# Altium schematic symbol library schematics.SchLib: 22 symbols
Pins are listed as number, name and electrical type; pins without a type are passive.

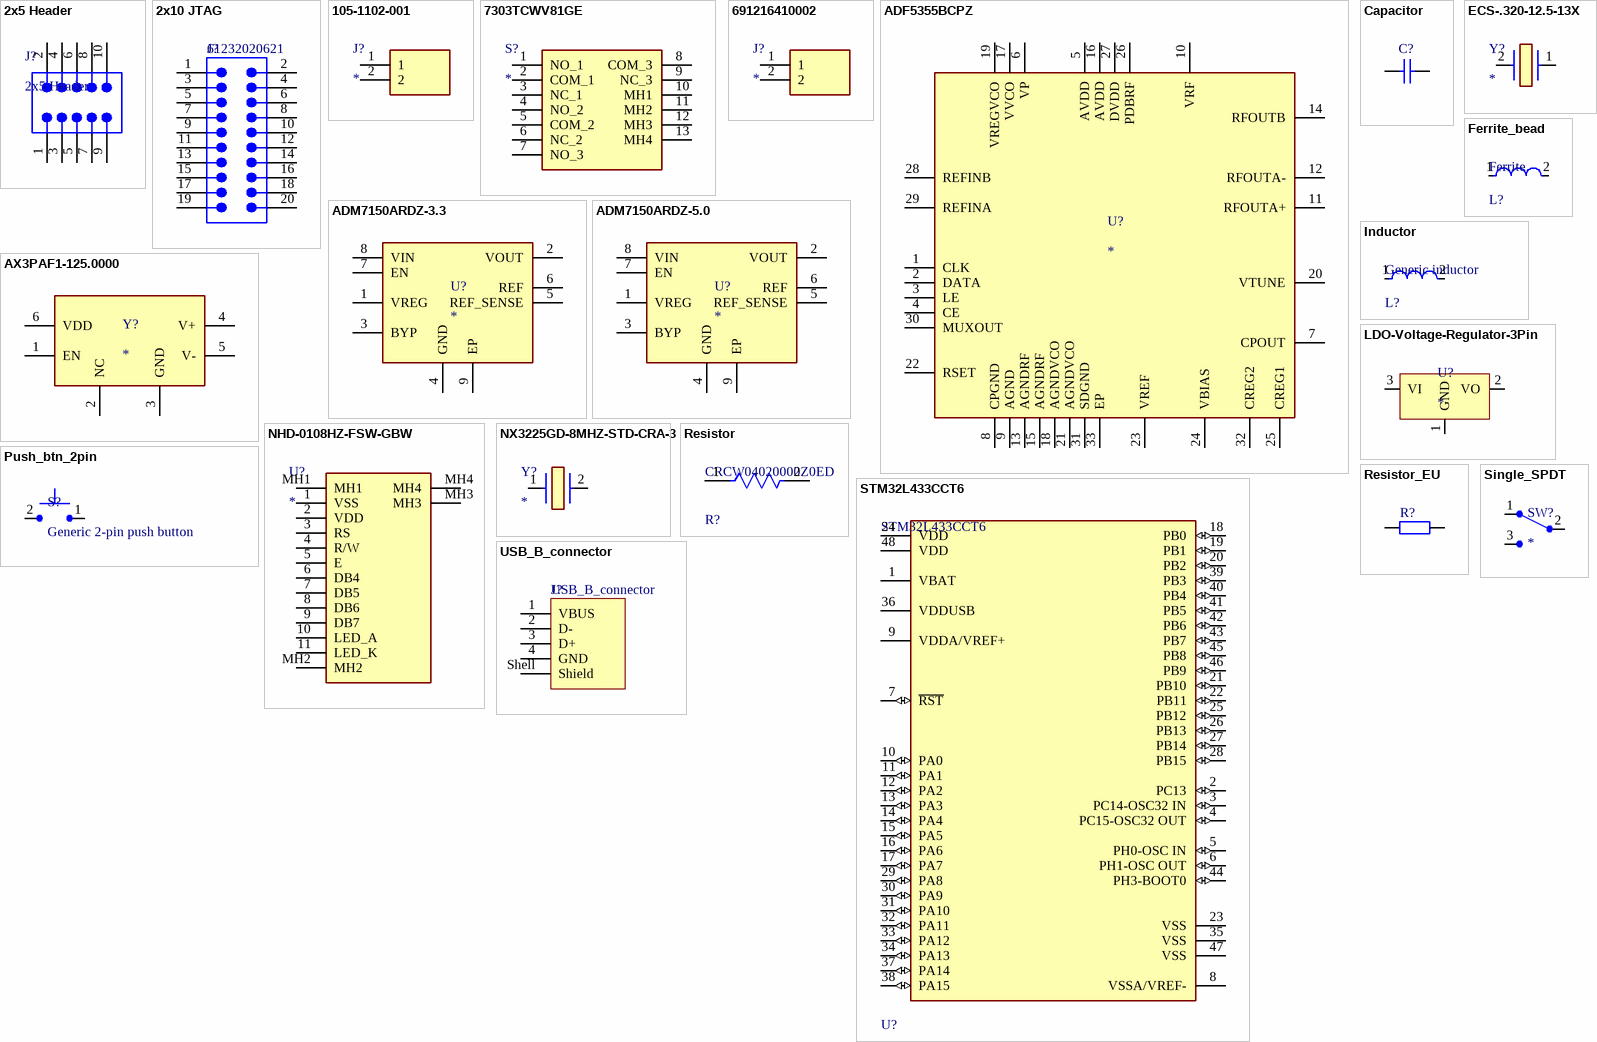
[diagram p0: symbols 2x5 Header to USB_B_connector]

## 2x5 Header
designator J?
Horizontal Surface Mount Header, -55 to 125 degC, 2 mm Pitch, 10-Pin, Male, RoHS; PartNumber: MMT-105-01-F-DH; Manufacturer: Samtec; Pitch: 2 mm; ComponentLink3Description: Package Specification; ComponentLink2URL: http://d2a072wq521u33.cloudfront.net/catalog_english//MMT_SM.PDF; PackageDescription: 2mm Horizontal Terminal Surface Mount Strip ASSEM; ComponentLink1Description: Manufacturer URL; ComponentLink3URL: http://www.samtec.com/documents/webfiles/cpdf/MMT-1XX-XX-XX-XX-XX-XXX-X-XX-MKT.pdf; RoHS: True; ComponentLink2Description: Datasheet; DatasheetVersion: F-214; ComponentLink1URL: http://www.samtec.com; PackageReference: MMT-105-01-X-DH; Mounting Technology: Surface Mount; Temperature Range: -55 to 125 degC; Orientation: Horizontal; PackageVersion: CY, 12/2000
footprint SMTC-MMT-105-01-X-DH (Terminal Surface Mount Strip ASSEM, 2x5 Pins, Horizontal, 2mm Pitch, Male)
footprint SMTC-MMT-105-01-X-DH (Terminal Surface Mount Strip ASSEM, 2x5 Pins, Horizontal, 2mm Pitch, Male)
pins: 1, 2, 3, 4, 5, 6, 7, 8, 9, 10

## 2x10 JTAG
designator J?, comment 61232020621
NexarPartId: 32855514; Insulation Resistance: 1GΩ; Operating Supply Voltage: 250V; Contact Resistance: 20mΩ; Gender: Male; Current Rating: 3A; Number of Positions: 20; Connector Type: Male Pin; Pitch: 2.54mm; Mount: Surface Mount; Contact Mating Length: 5.0038mm; REACH SVHC: Unknown; Packaging: Tape and Reel; Contact Plating: Gold; Length: 30.72mm; Number of Rows: 2; Color: Black; Termination: Solder; Orientation: Vertical; Max Operating Temperature: 125°C; Contact Material: Copper; Lead Pitch: 2.54mm; Number of Contacts: 20; RoHS: Compliant; Number of Pins: 20; Min Operating Temperature: -40°C; Row Spacing: 2.54mm
footprint 61232020621 (WR-BHD 2.54mm Male SMT Box Header (Reel), 20p)
footprint 61232020621 (WR-BHD 2.54mm Male SMT Box Header (Reel), 20p)
pins: 1, 2, 3, 4, 5, 6, 7, 8, 9, 10, 11, 12, 13, 14, 15, 16, 17, 18, 19, 20

## 105-1102-001
designator J?
Connector; Manufacturer_Name: Cinch Connectivity Solutions; Manufacturer_Part_Number: 105-1102-001; Datasheet Link: https://www.mouser.com/datasheet/2/643/pi-CCS-JOHN-105-1102-001-1289590.pdf; Height: 5.16mm; Mouser Part Number: 530-105-1102-1; Mouser Price/Stock: https://www.mouser.co.uk/ProductDetail/Johnson-Cinch-Connectivity-Solutions/105-1102-001?qs=ALatB1zlu3CDNmlfAzCZwg%3D%3D; Arrow Part Number: 105-1102-001; Arrow Price/Stock: https://www.arrow.com/en/products/105-1102-001/cinch-connectivity-solutions?region=nac
footprint 1051102001
pins: 1, 2

## 7303TCWV81GE
designator S?
Switch; Manufacturer_Name: C & K COMPONENTS; Manufacturer_Part_Number: 7303TCWV81GE; Datasheet Link: https://www.ckswitches.com/media/1394/7000toggle.pdf; Height: 38.18mm; Arrow Part Number: 7303TCWV81GE; Arrow Price/Stock: https://www.arrow.com/en/products/7303tcwv81ge/ck
footprint 7303TCWV81GE
pins: 1 NO_1, 2 COM_1, 3 NC_1, 4 NO_2, 5 COM_2, 6 NC_2, 7 NO_3, 8 COM_3, 9 NC_3, 10 MH1, 11 MH2, 12 MH3, 13 MH4

## 691216410002
designator J?
Connector; Manufacturer_Name: Wurth Elektronik; Manufacturer_Part_Number: 691216410002; Datasheet Link: https://docs.rs-online.com/7a5e/0900766b81734209.pdf; Height: 13.9mm; Mouser Part Number: 710-691216410002; Mouser Price/Stock: https://www.mouser.co.uk/ProductDetail/Wurth-Elektronik/691216410002?qs=lBTPRtX1sU%2F93qGihT%252BGAQ%3D%3D
footprint 691216410002
pins: 1, 2

## ADF5355BCPZ
designator U?
Integrated Circuit; Manufacturer_Name: Analog Devices; Manufacturer_Part_Number: ADF5355BCPZ; Datasheet Link: https://componentsearchengine.com/Datasheets/2/ADF5355BCPZ.pdf; Height: 0.8mm; Mouser Part Number: 584-ADF5355BCPZ; Mouser Price/Stock: https://www.mouser.co.uk/ProductDetail/Analog-Devices/ADF5355BCPZ?qs=hpwIUhX6lWz%252By8O4aZ7X5w%3D%3D; Arrow Part Number: ADF5355BCPZ; Arrow Price/Stock: https://www.arrow.com/en/products/adf5355bcpz/analog-devices
footprint QFN50P500X500X80-33N-D
footprint QFN50P500X500X80-33N-D
pins: 1 CLK, 2 DATA, 3 LE, 4 CE, 5 AVDD, 6 VP, 7 CPOUT, 8 CPGND, 9 AGND, 10 VRF, 11 RFOUTA+, 12 RFOUTA-, 13 AGNDRF, 14 RFOUTB, 15 AGNDRF, 16 AVDD, 17 VVCO, 18 AGNDVCO, 19 VREGVCO, 20 VTUNE, 21 AGNDVCO, 22 RSET, 23 VREF, 24 VBIAS, 25 CREG1, 26 PDBRF, 27 DVDD, 28 REFINB, 29 REFINA, 30 MUXOUT, 31 SDGND, 32 CREG2, 33 EP

## ADM7150ARDZ-3.3
designator U?
Integrated Circuit; Manufacturer_Name: Analog Devices; Manufacturer_Part_Number: ADM7150ARDZ-3.3; Datasheet Link: https://www.analog.com/media/en/technical-documentation/data-sheets/ADM7150.pdf; Height: 1.75mm; Mouser Part Number: 584-ADM7150ARDZ-3.3; Mouser Price/Stock: https://www.mouser.co.uk/ProductDetail/Analog-Devices/ADM7150ARDZ-3.3?qs=J50fqX%2Fl9iqu%2FV4kkGpO0w%3D%3D; Arrow Part Number: ADM7150ARDZ-3.3; Arrow Price/Stock: https://www.arrow.com/en/products/adm7150ardz-3.3/analog-devices?region=europe
footprint SOIC127P600X175-9N
footprint SOIC127P600X175-9N
pins: 1 VREG, 2 VOUT, 3 BYP, 4 GND, 5 REF_SENSE, 6 REF, 7 EN, 8 VIN, 9 EP

## ADM7150ARDZ-5.0
designator U?
Integrated Circuit; Manufacturer_Name: Analog Devices; Manufacturer_Part_Number: ADM7150ARDZ-5.0; Datasheet Link: http://www.farnell.com/datasheets/2252893.pdf; Height: 1.75mm; Mouser Part Number: 584-ADM7150ARDZ-5.0; Mouser Price/Stock: https://www.mouser.co.uk/ProductDetail/Analog-Devices/ADM7150ARDZ-5.0?qs=J50fqX%2Fl9irwq1mMDkiaAg%3D%3D; Arrow Part Number: ADM7150ARDZ-5.0; Arrow Price/Stock: https://www.arrow.com/en/products/adm7150ardz-5.0/analog-devices?region=europe
footprint SOIC127P600X175-9N
footprint SOIC127P600X175-9N
pins: 1 VREG, 2 VOUT, 3 BYP, 4 GND, 5 REF_SENSE, 6 REF, 7 EN, 8 VIN, 9 EP

## AX3PAF1-125.0000
designator Y?
Crystal or Oscillator; Manufacturer_Name: ABRACON; Manufacturer_Part_Number: AX3PAF1-125.0000; Description: 125 MHz XO (Standard) LVPECL Oscillator 3.3V Enable/Disable 6-SMD; Datasheet Link: https://abracon.com/datasheets/AX3.pdf; Mouser Part Number: 815-AX3PAF1-125.0000; Mouser Price/Stock: https://www.mouser.co.uk/ProductDetail/ABRACON/AX3PAF1-1250000?qs=Zz7%252BYVVL6bFYJKyZSka0MA%3D%3D
footprint AX3_3.2x2.5
footprint AX3_3.2x2.5
pins: 1 EN, 2 NC, 3 GND, 4 V+, 5 V-, 6 VDD

## Capacitor
designator C?
Manufacturer: Murata; Part Number: GRM155R71E103KA01D
footprint CAPC1005X55X25LL05T10 (Chip Capacitor, 2-Leads, Body 1.00x0.50mm, IPC High Density)
footprint CAPC1005X55X25NL05T10 (Chip Capacitor, 2-Leads, Body 1.00x0.50mm, IPC Medium Density)
footprint CAPC1005X55X25ML05T10 (Chip Capacitor, 2-Leads, Body 1.00x0.50mm, IPC Low Density)
footprint CAP_0402 (Chip Capacitor, 2-Leads, Body 1.00x0.50mm, IPC High Density)
pins: 1, 2
1 alternate drawing of the same symbol

## ECS-.320-12.5-13X
designator Y?
Crystal or Oscillator; Manufacturer_Name: ECS; Manufacturer_Part_Number: ECS-.320-12.5-13X; Datasheet Link: https://g.componentsearchengine.com/Datasheets/1/ECS-.320-12.5-13X.pdf; Height: 6.2mm; Mouser Part Number: 520-ECS-32-12.5-13X; Mouser Price/Stock: https://www.mouser.co.uk/ProductDetail/ECS/ECS-.320-12.5-13X?qs=aGohqJksTCKD9WVp6G%2FEsQ%3D%3D; Arrow Part Number: ECS-.320-12.5-13X; Arrow Price/Stock: https://www.arrow.com/en/products/ecs-.320-12.5-13x/ecs-international?region=nac
footprint ECS32012513X
footprint ECS32012513X
pins: 1, 2 CRYSTAL_2

## Ferrite_bead
designator L?, comment Ferrite
Test Frequency: 100MHz; DC Current: 500mA; Current: 400mA; Series Resistance: 170mR; Tolerance: 2%; Core Material: Non-Magnetic; Shielding: Unshielded; Self Resonant Frequency: 4.6GHz; Inductance: 22nH; Q Factor: 40; Weight: 0.000106oz; Military Standard: Not; Case/Package: 0603; Case Code (Metric): 1608; Width: 0.8mm; Length: 1.6mm; Depth: 1mm; REACH SVHC: No SVHC; Case Code (Imperial): 0603; Lead Free: Lead Free; Mount: Surface Mount; Resistor Type: Wirewound; Inductance Tolerance: 2%; Number of Pins: 2; Termination: SMD/SMT; Package Quantity: 4000; Height - Seated (Max): 0.039inch; Height: 0.8mm; Packaging: Tape and Reel; Max DC Current: 500mA; Current Rating: 500mA; Min Operating Temperature: -55°C; DC Resistance (DCR): 170mR; Max Operating Temperature: 125°C
footprint FP-LQW18AN_00-MFG
pins: 1, 2

## Inductor
designator L?, comment Generic inductor
Test Frequency: 100MHz; DC Current: 500mA; Current: 400mA; Series Resistance: 170mR; Tolerance: 2%; Core Material: Non-Magnetic; Shielding: Unshielded; Self Resonant Frequency: 4.6GHz; Inductance: 22nH; Q Factor: 40; Weight: 0.000106oz; Military Standard: Not; Case/Package: 0603; Case Code (Metric): 1608; Width: 0.8mm; Length: 1.6mm; Depth: 1mm; REACH SVHC: No SVHC; Case Code (Imperial): 0603; Lead Free: Lead Free; Mount: Surface Mount; Resistor Type: Wirewound; Inductance Tolerance: 2%; Number of Pins: 2; Termination: SMD/SMT; Package Quantity: 4000; Height - Seated (Max): 0.039inch; Height: 0.8mm; Packaging: Tape and Reel; Max DC Current: 500mA; Current Rating: 500mA; Min Operating Temperature: -55°C; DC Resistance (DCR): 170mR; Max Operating Temperature: 125°C
footprint FP-LQW18AN_00-MFG
pins: 1, 2

## LDO-Voltage-Regulator-3Pin
designator U?
pins: 1 GND, 2 VO, 3 VI

## NHD-0108HZ-FSW-GBW
designator U?
Display; Manufacturer_Name: Newhaven Display; Manufacturer_Part_Number: NHD-0108HZ-FSW-GBW; Datasheet Link: https://componentsearchengine.com/Datasheets/1/NHD-0108HZ-FSW-GBW.pdf; Height: 6.25mm; Mouser Part Number: 763-0108HZ-FSW-GBW; Mouser Price/Stock: https://www.mouser.co.uk/ProductDetail/Newhaven-Display/NHD-0108HZ-FSW-GBW?qs=3vk7fz9CmNzWmNqjoshRyQ%3D%3D
footprint NHD0108HZFSWGBW
footprint NHD0108HZFSWGBW
pins: 1 VSS, 2 VDD, 3 RS, 4 R/W, 5 E, 6 DB4, 7 DB5, 8 DB6, 9 DB7, 10 LED_A, 11 LED_K, MH1, MH2, MH3, MH4

## NX3225GD-8MHZ-STD-CRA-3
designator Y?
Crystal or Oscillator; Manufacturer_Name: NDK; Manufacturer_Part_Number: NX3225GD-8MHZ-STD-CRA-3; Datasheet Link: https://th.mouser.com/datasheet/2/905/c_NX3225GD-STD-CRA-3_e-1317534.pdf; Height: 1mm; Mouser Part Number: 344-NX3225GD8MCRA3; Mouser Price/Stock: https://www.mouser.co.uk/ProductDetail/NDK/NX3225GD-8MHZ-STD-CRA-3?qs=55YtniHzbhDA0fw3anYH2g%3D%3D
footprint NX3225GD8MHZSTDCRA3
footprint NX3225GD8MHZSTDCRA3
pins: 1, 2

## Push_btn_2pin
designator S?, comment Generic 2-pin push button
pins: 1, 2

## Resistor
designator R?, comment CRCW04020000Z0ED
Tolerance: 5%; Max Power Dissipation: 63mW; Voltage Rating: 50V; Temperature Coefficient: 100ppm/°C; Resistance: 0mR; Contact Plating: Tin; Height: 0.35mm; Radiation Hardening: No; Features: Automotive AEC-Q200; Composition: Thick Film; Width: 0.5mm; Weight: 2.3E-05oz; Termination: SMD/SMT; Packaging: Tape and Reel; Mount: Surface Mount; Case Code (Metric): 1005; Military Standard: Not; Min Operating Temperature: -55°C; Number of Terminations: 2; Package Quantity: 1; Case Code (Imperial): 0402; Depth: 0.5mm; Max Operating Temperature: 155°C; Case/Package: 0402; Power Rating: 63mW; Lead Free: Lead Free; Voltage Rating (DC): 50V; Length: 1mm
footprint FP-CRCW0402-e3-MFG
footprint FP-CRCW0402-e3-IPC_A
footprint FP-CRCW0402-e3-IPC_B
footprint FP-CRCW0402-e3-IPC_C
footprint Res_0402
pins: 1, 2

## Resistor_EU
designator R?
footprint RESC2512 (Resistor, Chip; 6.30 mm L X 3.15 mm W X 0.70 mm H Body)
footprint Res_0402
pins: 1, 2

## Single_SPDT
designator SW?
pins: 1, 2, 3

## STM32L433CCT6
designator U?
IC MCU 32BIT 256KB FLASH 48LQFP; Manufacturer: STMicroelectronics; Max Junction Temp: +105°C; Min Supply Voltage: 1.55V; Number Of Uart Channels: 4; Number Of I2C Channels: 3; Max Supply Voltage: 3.6V; Number Of I/Os: 38; Number Of Usb Channels: 1; Memory Size: 256KBytes; Interface: I2C,SPI,UART,USART,CAN,USB,LIN,IrDA,SMBus,Other; Ram Size: 64KBytes; Standoff Height: 0.05mm; Number Of Pwm Channels: 14; Number Of Timers/Counters: 9; Frequency: 80MHz; Data Bus Width: 32bits; Number Of Adc Channels: 10; Core Architecture: Arm Cortex-M4; Digikey Description: IC MCU 32BIT 256KB FLASH 48LQFP; Category: IC; Ambient Temperature Range High: +85°C; Number Of Spi Channels: 3; Temperature Range High: +85°C; ComponentLink2Description: Datasheet; Device Class L3: Microcontrollers; Device Class L2: Embedded Processors and Controllers; Temperature Range Low: -40°C; Ambient Temperature Range Low: -40°C; Manufacturer Part Number: STM32L433CCT6; Automotive: No; Package: LQFP48-5B; Ipc Land Pattern Name: QFP50P900X900X160-48; RoHS: TRUE; Octopart: https://octopart.com/stm32l433cct6-stmicroelectronics-71093511; Number Of A/D Converters: 1; Memory Type: FLASH; Lead Free: Yes; ComponentLink2URL: https://www.st.com/resource/en/datasheet/stm32l433cc.pdf; Device Class L1: Integrated Circuits (ICs); Temperature: -40°C to +85°C; Number Of Cores: 1; Height: 1.6mm
footprint FP-LQFP48-5B-MFG
pins: 1 VBAT (power), 2 PC13 (io), 3 PC14-OSC32 IN (io), 4 PC15-OSC32 OUT (io), 5 PH0-OSC IN (io), 6 PH1-OSC OUT (io), 7 ~{RST} (io), 8 VSSA/VREF- (power), 9 VDDA/VREF+ (power), 10 PA0 (io), 11 PA1 (io), 12 PA2 (io), 13 PA3 (io), 14 PA4 (io), 15 PA5 (io), 16 PA6 (io), 17 PA7 (io), 18 PB0 (io), 19 PB1 (io), 20 PB2 (io), 21 PB10 (io), 22 PB11 (io), 23 VSS (power), 24 VDD (power), 25 PB12 (io), 26 PB13 (io), 27 PB14 (io), 28 PB15 (io), 29 PA8 (io), 30 PA9 (io), 31 PA10 (io), 32 PA11 (io), 33 PA12 (io), 34 PA13 (io), 35 VSS (power), 36 VDDUSB (power), 37 PA14 (io), 38 PA15 (io), 39 PB3 (io), 40 PB4 (io), 41 PB5 (io), 42 PB6 (io), 43 PB7 (io), 44 PH3-BOOT0 (io), 45 PB8 (io), 46 PB9 (io), 47 VSS (power), 48 VDD (power)

## USB_B_connector
designator J?
NexarPartId: 19991172; Contact Resistance: 20mΩ; Connector Type: USB; Number of Contacts: 4; Gender: Receptacle; Current Rating: 1.5A; USB Standard: USB 2.0; Operating Supply Voltage: 30V; Insulation Resistance: 1GΩ; Orientation: Horizontal; RoHS: Compliant; Lead Free: Lead Free; Min Operating Temperature: -40°C; Length: 16mm; Number of Pins: 4; Features: Shielded; Contact Plating: Gold; Packaging: Tape and Reel; Max Operating Temperature: 105°C; Termination: SMD/SMT; Mount: Horizontal, Surface Mount; REACH SVHC: Unknown
footprint 62910416121 (USB 2.0 Type B SMT Horizontal)
pins: 1 VBUS, 2 D-, 3 D+, 4 GND, Shell Shield